# Altium schematic symbol library IC_VoltageRegulator.SchLib: 2 symbols
Pins are listed as number, name and electrical type; pins without a type are passive.

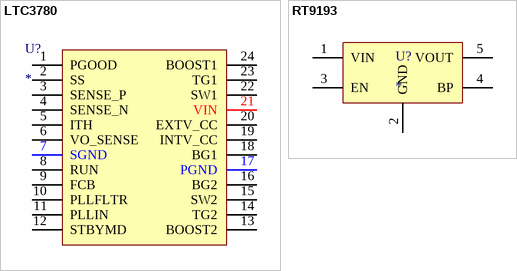
[diagram p0: symbols LTC3780 to RT9193]

## LTC3780
designator U?
High Efficiency Synchronous 4-Switch Buck-Boost Controller; Package: SSOP-24; Mounting Type: SMD
pins: 1 PGOOD, 2 SS, 3 SENSE_P, 4 SENSE_N, 5 ITH, 6 VO_SENSE, 7 SGND, 8 RUN, 9 FCB, 10 PLLFLTR, 11 PLLIN, 12 STBYMD, 13 BOOST2, 14 TG2, 15 SW2, 16 BG2, 17 PGND, 18 BG1, 19 INTV_CC, 20 EXTV_CC, 21 VIN, 22 SW1, 23 TG1, 24 BOOST1

## RT9193
designator U?
IC REG LINEAR 300MA SOT23-5; Output Voltage: ? V; Part Number: *; Supplier: *
footprint TI_SOT-23-5
pins: 1 VIN, 2 GND, 3 EN, 4 BP, 5 VOUT